# EAGLE library part SAK-TC1762* (library micro-siemens)
Infineon TriCore NG (Next Generation) 32bit Microcontroller/DSP
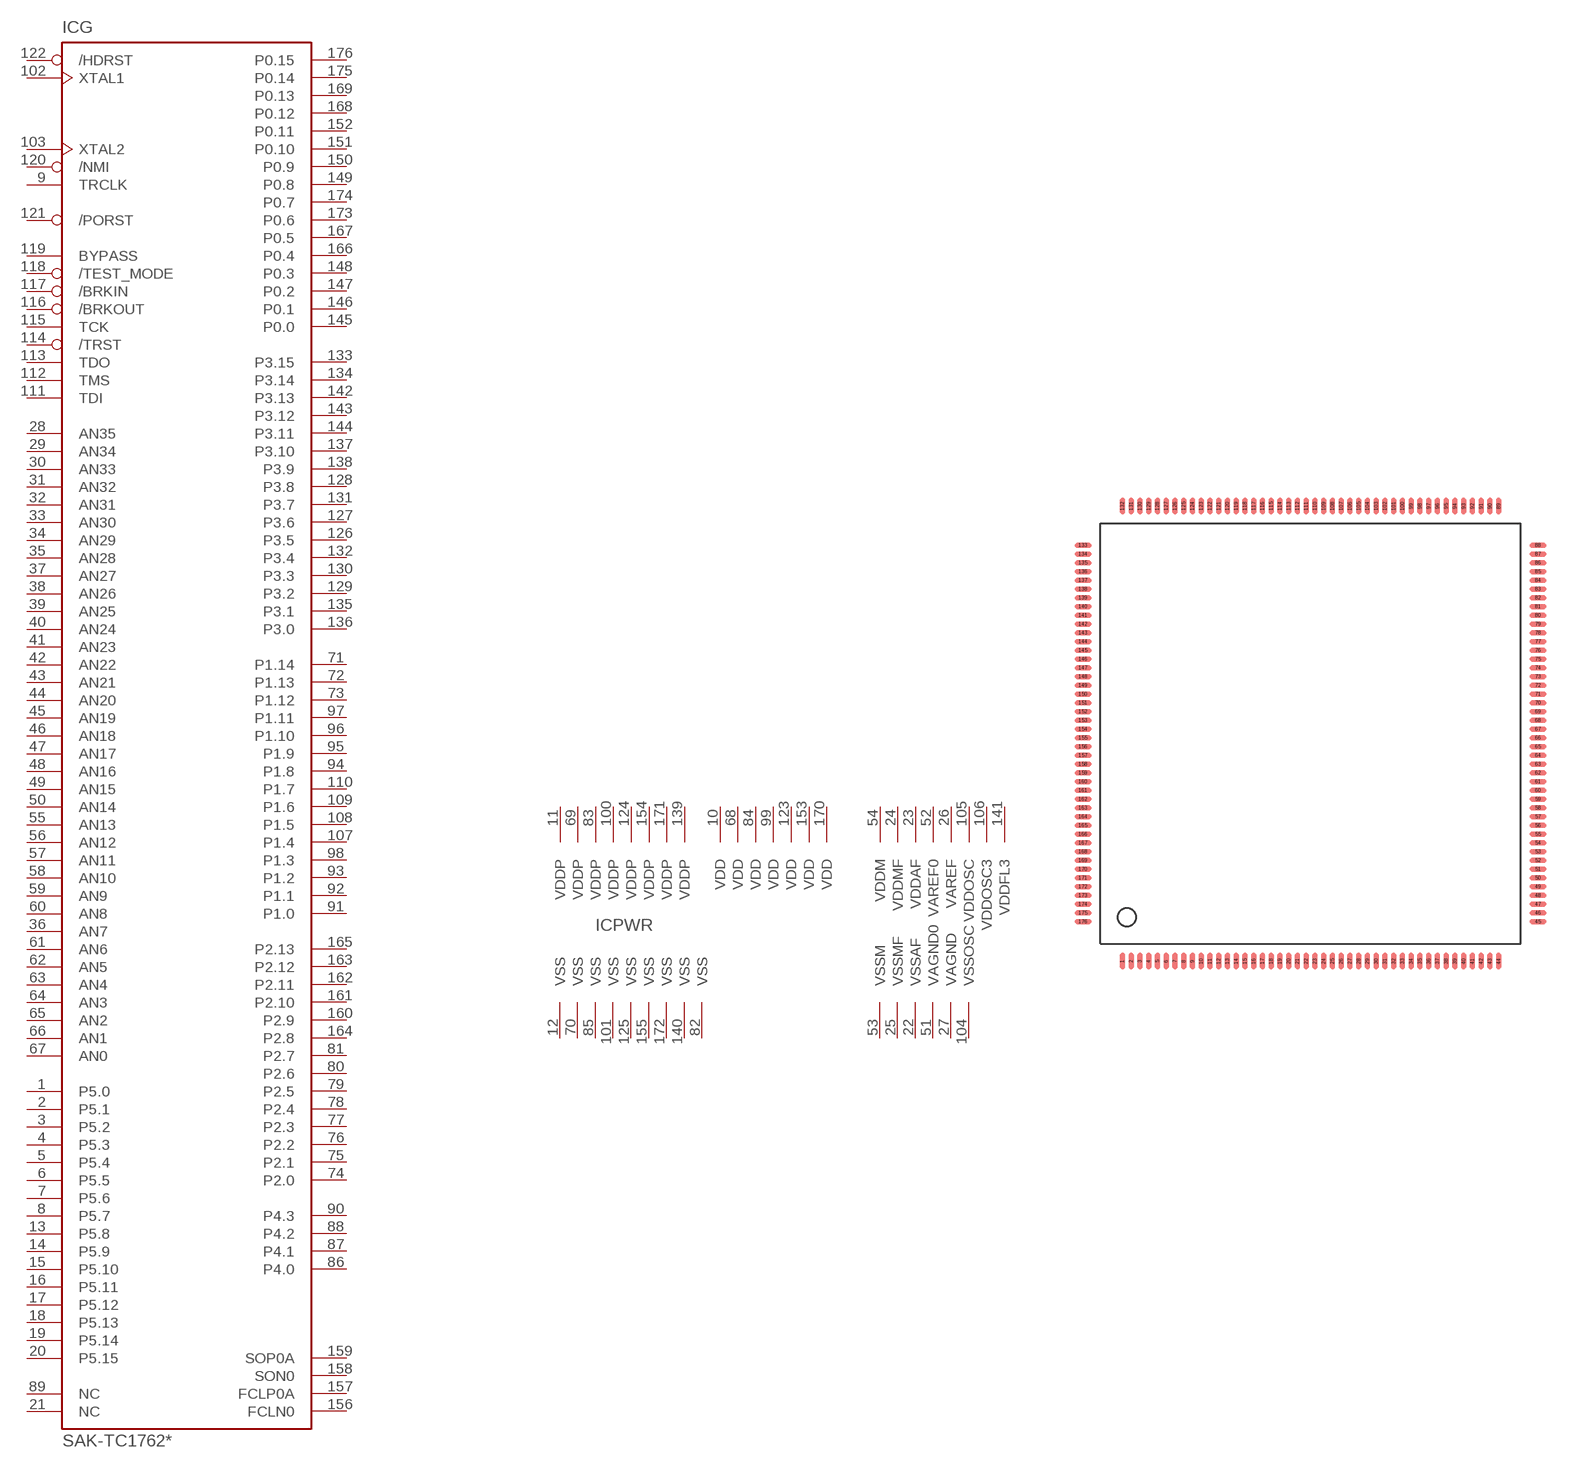
[diagram p61: symbol with the pads of P-LQFP-176-2; footprint P-LQFP-176-2]

Designator prefix IC; gates G=TC1762 PWR=PWR_TC1762

## SAK-TC1762 (OC_FARNELL: unknown; OC_NEWARK: unknown)  [P-LQFP-176-2]
1  G:P5.0  pas
2  G:P5.1  pas
3  G:P5.2  pas
4  G:P5.3  pas
5  G:P5.4  pas
6  G:P5.5  pas
7  G:P5.6  pas
8  G:P5.7  pas
9  G:TRCLK  pas
10  PWR:VDD  pwr
11  PWR:VDDP  pwr
12  PWR:VSS  pwr
13  G:P5.8  pas
14  G:P5.9  pas
15  G:P5.10  pas
16  G:P5.11  pas
17  G:P5.12  pas
18  G:P5.13  pas
19  G:P5.14  pas
20  G:P5.15  pas
21  G:NC  pas
22  PWR:VSSAF  pwr
23  PWR:VDDAF  pwr
24  PWR:VDDMF  pwr
25  PWR:VSSMF  pwr
26  PWR:VAREF  pwr
27  PWR:VAGND  pwr
28  G:AN35  pas
29  G:AN34  pas
30  G:AN33  pas
31  G:AN32  pas
32  G:AN31  pas
33  G:AN30  pas
34  G:AN29  pas
35  G:AN28  pas
36  G:AN7  pas
37  G:AN27  pas
38  G:AN26  pas
39  G:AN25  pas
40  G:AN24  pas
41  G:AN23  pas
42  G:AN22  pas
43  G:AN21  pas
44  G:AN20  pas
45  G:AN19  pas
46  G:AN18  pas
47  G:AN17  pas
48  G:AN16  pas
49  G:AN15  pas
50  G:AN14  pas
51  PWR:VAGND0  pwr
52  PWR:VAREF0  pwr
53  PWR:VSSM  pwr
54  PWR:VDDM  pwr
55  G:AN13  pas
56  G:AN12  pas
57  G:AN11  pas
58  G:AN10  pas
59  G:AN9  pas
60  G:AN8  pas
61  G:AN6  pas
62  G:AN5  pas
63  G:AN4  pas
64  G:AN3  pas
65  G:AN2  pas
66  G:AN1  pas
67  G:AN0  pas
68  PWR:VDD  pwr
69  PWR:VDDP  pwr
70  PWR:VSS  pwr
71  G:P1.14  pas
72  G:P1.13  pas
73  G:P1.12  pas
74  G:P2.0  pas
75  G:P2.1  pas
76  G:P2.2  pas
77  G:P2.3  pas
78  G:P2.4  pas
79  G:P2.5  pas
80  G:P2.6  pas
81  G:P2.7  pas
82  PWR:VSS  pwr
83  PWR:VDDP  pwr
84  PWR:VDD  pwr
85  PWR:VSS  pwr
86  G:P4.0  pas
87  G:P4.1  pas
88  G:P4.2  pas
89  G:NC  pas
90  G:P4.3  pas
91  G:P1.0  pas
92  G:P1.1  pas
93  G:P1.2  pas
94  G:P1.8  pas
95  G:P1.9  pas
96  G:P1.10  pas
97  G:P1.11  pas
98  G:P1.3  pas
99  PWR:VDD  pwr
100  PWR:VDDP  pwr
101  PWR:VSS  pwr
102  G:XTAL1  pas
103  G:XTAL2  pas
104  PWR:VSSOSC  pwr
105  PWR:VDDOSC  pwr
106  PWR:VDDOSC3  pwr
107  G:P1.4  pas
108  G:P1.5  pas
109  G:P1.6  pas
110  G:P1.7  pas
111  G:TDI  pas
112  G:TMS  pas
113  G:TDO  pas
114  G:/TRST  pas
115  G:TCK  pas
116  G:/BRKOUT  pas
117  G:/BRKIN  pas
118  G:/TEST_MODE  pas
119  G:BYPASS  pas
120  G:/NMI  pas
121  G:/PORST  pas
122  G:/HDRST  pas
123  PWR:VDD  pwr
124  PWR:VDDP  pwr
125  PWR:VSS  pwr
126  G:P3.5  pas
127  G:P3.6  pas
128  G:P3.8  pas
129  G:P3.2  pas
130  G:P3.3  pas
131  G:P3.7  pas
132  G:P3.4  pas
133  G:P3.15  pas
134  G:P3.14  pas
135  G:P3.1  pas
136  G:P3.0  pas
137  G:P3.10  pas
138  G:P3.9  pas
139  PWR:VDDP  pwr
140  PWR:VSS  pwr
141  PWR:VDDFL3  pwr
142  G:P3.13  pas
143  G:P3.12  pas
144  G:P3.11  pas
145  G:P0.0  pas
146  G:P0.1  pas
147  G:P0.2  pas
148  G:P0.3  pas
149  G:P0.8  pas
150  G:P0.9  pas
151  G:P0.10  pas
152  G:P0.11  pas
153  PWR:VDD  pwr
154  PWR:VDDP  pwr
155  PWR:VSS  pwr
156  G:FCLN0  pas
157  G:FCLP0A  pas
158  G:SON0  pas
159  G:SOP0A  pas
160  G:P2.9  pas
161  G:P2.10  pas
162  G:P2.11  pas
163  G:P2.12  pas
164  G:P2.8  pas
165  G:P2.13  pas
166  G:P0.4  pas
167  G:P0.5  pas
168  G:P0.12  pas
169  G:P0.13  pas
170  PWR:VDD  pwr
171  PWR:VDDP  pwr
172  PWR:VSS  pwr
173  G:P0.6  pas
174  G:P0.7  pas
175  G:P0.14  pas
176  G:P0.15  pas

## Footprint P-LQFP-176-2 (pad centres in mm)
P-LQFP-176-2 with rounded pads
smd 0.3 x 1: 1 -10.75,-13; 2 -10.25,-13; 3 -9.75,-13; 4 -9.25,-13; 5 -8.75,-13; 6 -8.25,-13; 7 -7.75,-13; 8 -7.25,-13; 9 -6.75,-13; 10 -6.25,-13; 11 -5.75,-13; 12 -5.25,-13; 13 -4.75,-13; 14 -4.25,-13; 15 -3.75,-13; 16 -3.25,-13; 17 -2.75,-13; 18 -2.25,-13; 19 -1.75,-13; 20 -1.25,-13; 21 -0.75,-13; 22 -0.25,-13; 23 0.25,-13; 24 0.75,-13; 25 1.25,-13; 26 1.75,-13; 27 2.25,-13; 28 2.75,-13; 29 3.25,-13; 30 3.75,-13; 31 4.25,-13; 32 4.75,-13; 33 5.25,-13; 34 5.75,-13; 35 6.25,-13; 36 6.75,-13; 37 7.25,-13; 38 7.75,-13; 39 8.25,-13; 40 8.75,-13; 41 9.25,-13; 42 9.75,-13; 43 10.25,-13; 44 10.75,-13; 89 10.75,13; 90 10.25,13; 91 9.75,13; 92 9.25,13; 93 8.75,13; 94 8.25,13; 95 7.75,13; 96 7.25,13; 97 6.75,13; 98 6.25,13; 99 5.75,13; 100 5.25,13; 101 4.75,13; 102 4.25,13; 103 3.75,13; 104 3.25,13; 105 2.75,13; 106 2.25,13; 107 1.75,13; 108 1.25,13; 109 0.75,13; 110 0.25,13; 111 -0.25,13; 112 -0.75,13; 113 -1.25,13; 114 -1.75,13; 115 -2.25,13; 116 -2.75,13; 117 -3.25,13; 118 -3.75,13; 119 -4.25,13; 120 -4.75,13; 121 -5.25,13; 122 -5.75,13; 123 -6.25,13; 124 -6.75,13; 125 -7.25,13; 126 -7.75,13; 127 -8.25,13; 128 -8.75,13; 129 -9.25,13; 130 -9.75,13; 131 -10.25,13; 132 -10.75,13
smd 1 x 0.3: 45 13,-10.75; 46 13,-10.25; 47 13,-9.75; 48 13,-9.25; 49 13,-8.75; 50 13,-8.25; 51 13,-7.75; 52 13,-7.25; 53 13,-6.75; 54 13,-6.25; 55 13,-5.75; 56 13,-5.25; 57 13,-4.75; 58 13,-4.25; 59 13,-3.75; 60 13,-3.25; 61 13,-2.75; 62 13,-2.25; 63 13,-1.75; 64 13,-1.25; 65 13,-0.75; 66 13,-0.25; 67 13,0.25; 68 13,0.75; 69 13,1.25; 70 13,1.75; 71 13,2.25; 72 13,2.75; 73 13,3.25; 74 13,3.75; 75 13,4.25; 76 13,4.75; 77 13,5.25; 78 13,5.75; 79 13,6.25; 80 13,6.75; 81 13,7.25; 82 13,7.75; 83 13,8.25; 84 13,8.75; 85 13,9.25; 86 13,9.75; 87 13,10.25; 88 13,10.75; 133 -13,10.75; 134 -13,10.25; 135 -13,9.75; 136 -13,9.25; 137 -13,8.75; 138 -13,8.25; 139 -13,7.75; 140 -13,7.25; 141 -13,6.75; 142 -13,6.25; 143 -13,5.75; 144 -13,5.25; 145 -13,4.75; 146 -13,4.25; 147 -13,3.75; 148 -13,3.25; 149 -13,2.75; 150 -13,2.25; 151 -13,1.75; 152 -13,1.25; 153 -13,0.75; 154 -13,0.25; 155 -13,-0.25; 156 -13,-0.75; 157 -13,-1.25; 158 -13,-1.75; 159 -13,-2.25; 160 -13,-2.75; 161 -13,-3.25; 162 -13,-3.75; 163 -13,-4.25; 164 -13,-4.75; 165 -13,-5.25; 166 -13,-5.75; 167 -13,-6.25; 168 -13,-6.75; 169 -13,-7.25; 170 -13,-7.75; 171 -13,-8.25; 172 -13,-8.75; 173 -13,-9.25; 174 -13,-9.75; 175 -13,-10.25; 176 -13,-10.75